# Altium footprint library Radial_10x10mm_THT.PcbLib: 1 footprints
Each footprint in its own frame and in the unit in brackets; x right, y up, seen from the top. Pads: shape width x height; smd on the part's side, far side on the other; paste and mask are expansions set on the pad; w line width, h text height; cw(c..) or ccw(c..) is an arc to the next point about the centre after c.
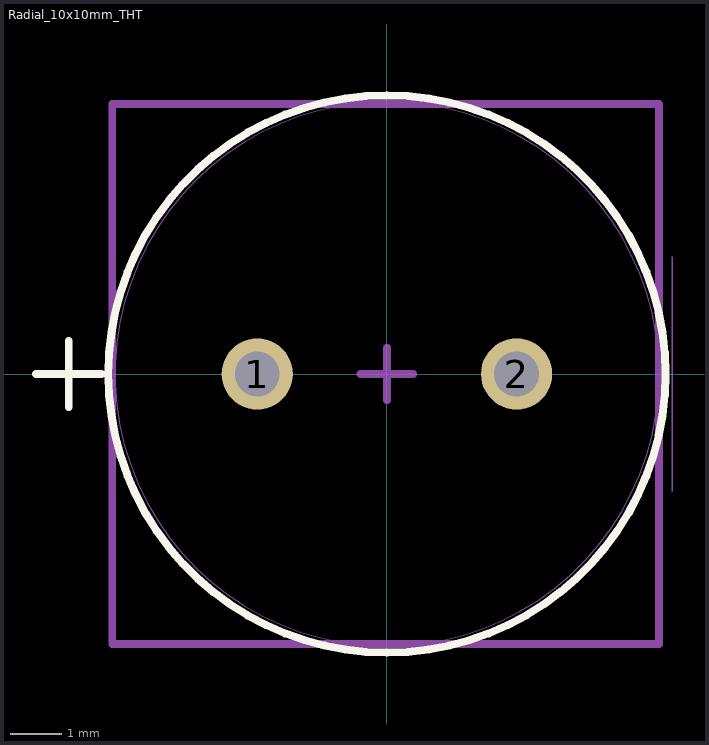
[diagram p0: the footprint, top view; thin cyan lines are the x and y axes]

## Radial_10x10mm_THT [mil]
pads (2):
  round 54 hole 34 mask+0: 1(-98.43,0) 2(98.43,0)
Top Overlay:
  circle w6: c0,0 r211.5
  lines w6: -266.5,0 -216.5,0 ; -241.5,-25 -241.5,25
Mechanical 13:
  circle w0: c0,0 r206.5
  lines w1: -266.5,0 -216.5,0 ; -241.5,-25 -241.5,25
  lines w5.91: -208.43,-205 206.57,-205 206.57,205 -208.43,205 -208.43,-205
Mechanical 15:
  lines w1: 216.5,-89.15 216.5,89.15
  lines w5.91: -20,0 0,0 ; 0,0 0,20 0,0 ; 0,0 20,0 0,0 ; 0,0 0,-20 0,0
3D body "CAP_YX_10X20_RUB.step": height 866.61, standoff -172.01, extent -206.5,-206.37 207.45,206.37